# EAGLE library part DSPIC33FJ*GP804 (library bnahill)
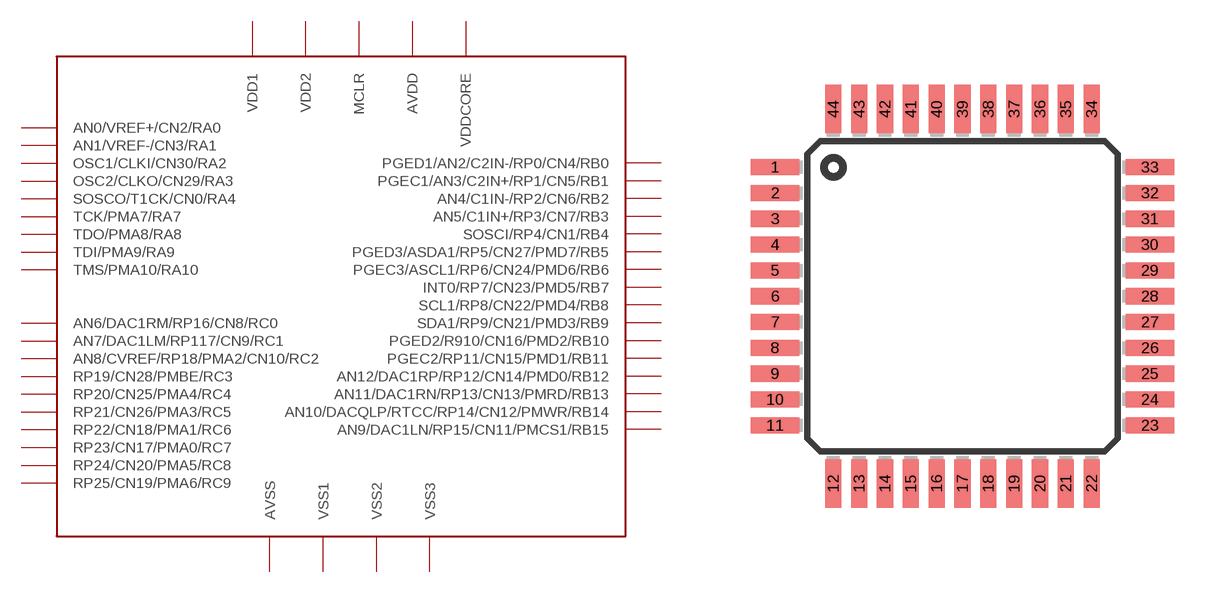
[diagram p4: symbol with the pads of TQFP44; footprint TQFP44]

Designator prefix -

## DSPIC33FJGP804  [TQFP44]
1  SDA1/RP9/CN21/PMD3/RB9
2  RP22/CN18/PMA1/RC6
3  RP23/CN17/PMA0/RC7
4  RP24/CN20/PMA5/RC8
5  RP25/CN19/PMA6/RC9
6  VSS1
7  VDDCORE
8  PGED2/R910/CN16/PMD2/RB10
9  PGEC2/RP11/CN15/PMD1/RB11
10  AN12/DAC1RP/RP12/CN14/PMD0/RB12
11  AN11/DAC1RN/RP13/CN13/PMRD/RB13
12  TMS/PMA10/RA10
13  TCK/PMA7/RA7
14  AN10/DACQLP/RTCC/RP14/CN12/PMWR/RB14
15  AN9/DAC1LN/RP15/CN11/PMCS1/RB15
16  AVSS
17  AVDD
18  MCLR
19  AN0/VREF+/CN2/RA0
20  AN1/VREF-/CN3/RA1
21  PGED1/AN2/C2IN-/RP0/CN4/RB0
22  PGEC1/AN3/C2IN+/RP1/CN5/RB1
23  AN4/C1IN-/RP2/CN6/RB2
24  AN5/C1IN+/RP3/CN7/RB3
25  AN6/DAC1RM/RP16/CN8/RC0
26  AN7/DAC1LM/RP117/CN9/RC1
27  AN8/CVREF/RP18/PMA2/CN10/RC2
28  VDD1
29  VSS2
30  OSC1/CLKI/CN30/RA2
31  OSC2/CLKO/CN29/RA3
32  TDO/PMA8/RA8
33  SOSCI/RP4/CN1/RB4
34  SOSCO/T1CK/CN0/RA4
35  TDI/PMA9/RA9
36  RP19/CN28/PMBE/RC3
37  RP20/CN25/PMA4/RC4
38  RP21/CN26/PMA3/RC5
39  VSS3
40  VDD2
41  PGED3/ASDA1/RP5/CN27/PMD7/RB5
42  PGEC3/ASCL1/RP6/CN24/PMD6/RB6
43  INT0/RP7/CN23/PMD5/RB7
44  SCL1/RP8/CN22/PMD4/RB8

## Footprint TQFP44 (pad centres in mm)
smd 1.5 x 0.5: 1 -5.8,4; 2 -5.8,3.2; 3 -5.8,2.4; 4 -5.8,1.6; 5 -5.8,0.8; 6 -5.8,0; 7 -5.8,-0.8; 8 -5.8,-1.6; 9 -5.8,-2.4; 10 -5.8,-3.2; 11 -5.8,-4; 23 5.8,-4; 24 5.8,-3.2; 25 5.8,-2.4; 26 5.8,-1.6; 27 5.8,-0.8; 28 5.8,0; 29 5.8,0.8; 30 5.8,1.6; 31 5.8,2.4; 32 5.8,3.2; 33 5.8,4
smd 0.5 x 1.5: 12 -4,-5.8; 13 -3.2,-5.8; 14 -2.4,-5.8; 15 -1.6,-5.8; 16 -0.8,-5.8; 17 0,-5.8; 18 0.8,-5.8; 19 1.6,-5.8; 20 2.4,-5.8; 21 3.2,-5.8; 22 4,-5.8; 34 4,5.8; 35 3.2,5.8; 36 2.4,5.8; 37 1.6,5.8; 38 0.8,5.8; 39 0,5.8; 40 -0.8,5.8; 41 -1.6,5.8; 42 -2.4,5.8; 43 -3.2,5.8; 44 -4,5.8